# EAGLE library part 610020243021 (library Wurth_Elektronik_Electromechanic_Board_to_Board_Connectors_rev16a)
WR-PHD 2.54mm SMT Dual Socket Header Bottom Entry, 20 Pins=>Code : Con_BTB_SHD_2.54_2_610x20243021(x = 0: Tube x = 3: Tape & Reel with Cap) <http://katalog.we-online.de/media/images/eican/Con_BTB_SHD_2.54_2_6100xx243021_pf2.jpg> Details see: 6100xx243021 http://katalog.we-online.de/en/em/610_0xx_243_021 6103xx243021 http://katalog.we-online.de/en/em/PHD_2_54_SMT_DUAL_SOCKET_HEADER_BOTTOM_ENTRY_6103XX243021 2014 (C) Würth Elektronik
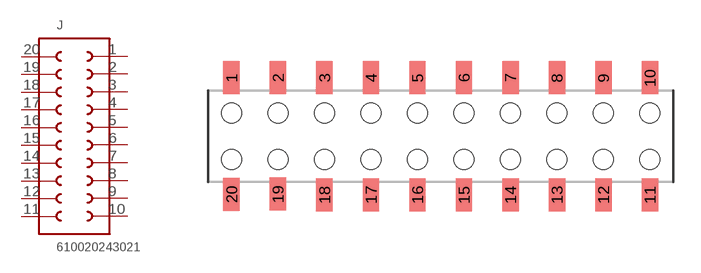
[diagram p189: symbol with the pads of 610020243021; footprint 610020243021]

Designator prefix J

## 610020243021  [610020243021]
1  1  pas
2  2  pas
3  3  pas
4  4  pas
5  5  pas
6  6  pas
7  7  pas
8  8  pas
9  9  pas
10  10  pas
11  11  pas
12  12  pas
13  13  pas
14  14  pas
15  15  pas
16  16  pas
17  17  pas
18  18  pas
19  19  pas
20  20  pas

## Footprint 610020243021 (pad centres in mm)
WR-PHD 2.54mm SMT Dual Socket Header Bottom Entry, 20 Pins
smd 0.9 x 1.8: 1 -11.43,3.2; 2 -8.89,3.2; 3 -6.35,3.2; 4 -3.81,3.2; 5 -1.27,3.2; 6 1.27,3.2; 7 3.81,3.2; 8 6.35,3.2; 9 8.89,3.2; 10 11.43,3.2; 11 11.43,-3.2; 12 8.89,-3.2; 13 6.35,-3.2; 14 3.81,-3.2; 15 1.27,-3.2; 16 -1.27,-3.2; 17 -3.81,-3.2; 18 -6.35,-3.2; 19 -8.9,-3.16; 20 -11.43,-3.17
hole 1.1 at -11.43,1.27
hole 1.1 at -8.89,1.27
hole 1.1 at -8.89,-1.27
hole 1.1 at -11.43,-1.27
hole 1.1 at -6.35,1.27
hole 1.1 at -6.35,-1.27
hole 1.1 at -3.81,1.27
hole 1.1 at -3.81,-1.27
hole 1.1 at -1.27,1.27
hole 1.1 at -1.27,-1.27
hole 1.1 at 1.27,1.27
hole 1.1 at 1.27,-1.27
hole 1.1 at 3.81,1.27
hole 1.1 at 3.81,-1.27
hole 1.1 at 6.35,1.27
hole 1.1 at 6.35,-1.27
hole 1.1 at 8.89,1.27
hole 1.1 at 8.89,-1.27
hole 1.1 at 11.43,1.27
hole 1.1 at 11.43,-1.27